# Altium schematic symbol library B1205S-2WR3.SchLib: 1 symbol
Pins are listed as number, name and electrical type; pins without a type are passive.

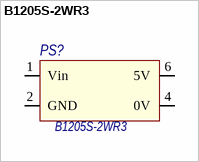
[diagram p0: symbol B1205S-2WR3]

## B1205S-2WR3
designator PS?
Isolated DCDC power supply, 2W input 12 output 5; ID: B1205S-2WR3
footprint B1205S-2WR3
pins: 1 Vin, 2 GND, 4 0V, 6 5V